# Altium schematic symbol library V_D.SchLib: 68 symbols
Pins are listed as number, name and electrical type; pins without a type are passive.

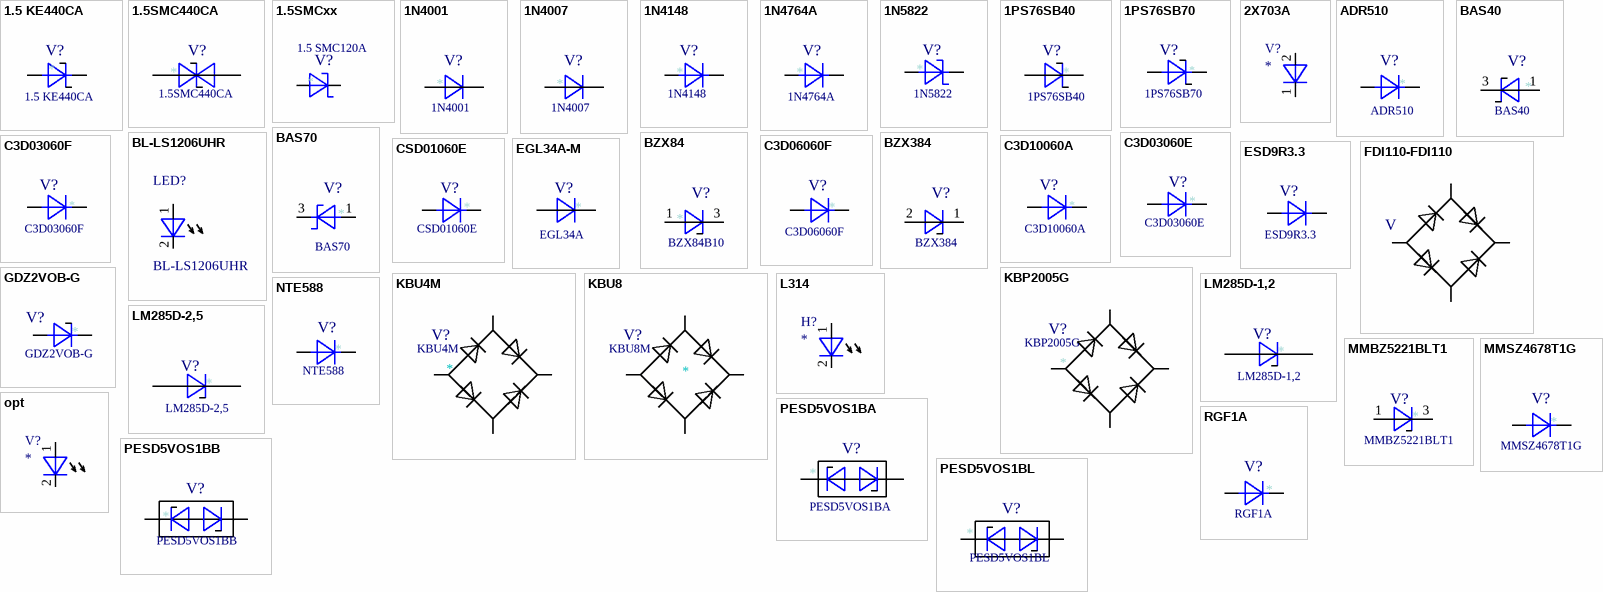
[diagram p0: symbols 1.5 KE440CA to RGF1A]

## 1.5 KE440CA
designator V?
TitAD: Стабилитрон; Supplier 1: Mouser; Supplier Part Number 1: 576-1.5KE440CA
footprint DO-27_(DO-201AD,DO-201AE)
pins: 1 A1, 2 A2

## 1.5SMC440CA
designator V?
TitAD: Стабилитрон; Supplier 1: Digi-Key; Supplier Part Number 1: 1.5SMC440A-E3/57TGICT-ND
footprint SMC_1
pins: 1 K, 2 A

## 1.5SMCxx
designator V?, comment 1.5 SMC120A
TitAD: Стабилитрон; SType: 1,5SMC@120A; Supplier 1: Digi-Key; Supplier Part Number 1: F4116TR-ND
footprint SMC
pins: 1 K, 2 A

## 1N4001
designator V?
TitAD: Диод; Supplier 1: Mouser; Supplier Part Number 1: 625-1N4007E-E3/73
footprint DO-41
pins: 1 K, 2 A

## 1N4007
designator V?
TitAD: Диод; Supplier 1: Mouser; Supplier Part Number 1: 625-1N4007E-E3/73
footprint DO-41
pins: 1 K, 2 A

## 1N4148
designator V?
TitAD: Диод; Supplier 1: Farnell; Supplier Part Number 1: 1081177
footprint SOD-27
pins: 1 K, 2 A

## 1N4764A
designator V?
TitAD: Диод; Supplier 1: Farnell; Supplier Part Number 1: 1577965
footprint DO-41
pins: 1 K, 2 A

## 1N5822
designator V?
TitAD: Диод; Supplier 1: Newark; Supplier Part Number 1: 42K2952
footprint DO-27_(DO-201AD,DO-201AE)
pins: 1 K, 2 A

## 1PS76SB40
designator V?
TitAD: Стабилитрон; SType: SMAJ@22A
footprint SOD323 (Molded Diode, 2-Leads, Body 1,70x1,25mm, IPC Medium Density)
pins: 1 K, 2 A

## 1PS76SB70
designator V?
TitAD: Диод
footprint SOD323 (Molded Diode, 2-Leads, Body 1,70x1,25mm, IPC Medium Density)
pins: 1 K, 2 A

## 2X703A
designator V?
footprint 2X703A
pins: 1 A, 2 C, 3 hidden

## ADR510
designator V?
TitAD: Диод
footprint SOT-23
pins: 1 K, 2 A, 3 hidden

## BAS40
designator V?
TitAD: Диод; Supplier 1: Farnell; Supplier Part Number 1: 1902408
footprint SOT-23
pins: 1 A, 2 NC hidden, 3 C

## BAS70
designator V?
TitAD: Диод; Supplier 1: Mouser; Supplier Part Number 1: 621-BAS70W-05-F
footprint SOT-23
pins: 1 A, 2 NC hidden, 3 C

## BL-LS1206UHR
designator LED?
pins: 1 A, 2 C

## BZX84
designator V?, comment BZX84B10
TitAD: Стабилитрон; SType: BZX84@B10; Supplier 1: Mouser
footprint SOT-23
pins: 1 A, 2 NC hidden, 3 C

## BZX384
designator V?
TitAD: Стабилитрон; SType: @B10; Supplier 1: Mouser
footprint SOD323 (Molded Diode, 2-Leads, Body 1,70x1,25mm, IPC Medium Density)
pins: 1 A, 2 C

## C3D03060E
designator V?
TitAD: Диод; Supplier 1: Mouser; Supplier Part Number 1: 941-CSD01060E
footprint TO-252-2
pins: 1 K, 2 A, 3 K hidden

## C3D03060F
designator V?
TitAD: Диод; Supplier 1: Mouser; Supplier Part Number 1: 941-C3D03060F
footprint TO-220-F2
pins: 1 K, 2 A

## C3D06060F
designator V?
TitAD: Диод; Supplier 1: Mouser; Supplier Part Number 1: 941-C3D03060F
footprint TO-220-F2
pins: 1 K, 2 A

## C3D10060A
designator V?
TitAD: Диод; Supplier 1: Mouser; Supplier Part Number 1: 941-C3D03060F
footprint TO-220-F2
pins: 1 K, 2 A

## CSD01060E
designator V?
TitAD: Диод; Value: CSD01060E; Supplier 1: Mouser; Supplier Part Number 1: 941-CSD01060E
footprint TO-252-2
pins: 1 K, 2 A, 3 K hidden

## EGL34A-M
designator V?, comment EGL34A
TitAD: Диод; SType: EGL34@A; Supplier 1: Newark; Supplier Part Number 1: 08N8934; Supplier 2: Digi-Key; Supplier Part Number 2: EGL34D-E3/98GICT-ND
footprint DO-213AA(MINIMELF)
pins: 1 K, 2 A

## ESD9R3.3
designator V?
TitAD: Диод
footprint SOD 923
pins: 1 K, 2 A

## FDI110-FDI110
designator V, comment FDI100  (value not drawn)
TitAD: Диодный мост; Value: FDI100
footprint FDI110
pins: 1 -, 2 +, 3 ~, 4 ~

## GDZ2VOB-G
designator V?
SType: @2VOB-G; TitAD: Стабилитрон
footprint SOD323 (Molded Diode, 2-Leads, Body 1,70x1,25mm, IPC Medium Density)
pins: 1 K, 2 A

## KBP2005G
designator V?
TitAD: Диодный мост; Supplier 1: Digi-Key; Supplier Part Number 1: KBP2005GDI-ND
footprint KBP
pins: 1 -, 2 ~, 3 ~, 4 +

## KBU4M
designator V?
TitAD: Диодный мост; SType: KBU4@M; Supplier 1: Mouser; Supplier Part Number 1: 625-KBU4A-E4
footprint KBU
footprint KBU_радиатор
pins: 1 -, 2 ~, 3 ~, 4 +
2 alternate drawings of the same symbol

## KBU8
designator V?, comment KBU8M
TitAD: Диодный мост; SType: KBU8@M
footprint KBU
pins: 1 -, 2 ~, 3 ~, 4 +
2 alternate drawings of the same symbol

## L314
designator H?
TitAD: Светодиод; SType: HD
footprint Светодиод
pins: 1 A, 2 C

## LM285D-1,2
designator V?
TitAD: Стабилитрон; Supplier 1: Farnell; Supplier Part Number 1: 8389187
footprint SO8
pins: 1 C hidden, 2 C hidden, 3 C hidden, 4 A, 5 C hidden, 6 C hidden, 7 C hidden, 8 C

## LM285D-2,5
designator V?
TitAD: Стабилитрон; Supplier 1: Farnell; Supplier Part Number 1: 8389187
footprint SO8
pins: 1 C hidden, 2 C hidden, 3 C hidden, 4 A, 5 C hidden, 6 C hidden, 7 C hidden, 8 C

## MMBZ5221BLT1
designator V?
TitAD: Стабилитрон; Supplier 1: Digi-Key; Supplier Part Number 1: MMBZ5221BLT1OSTR-ND
footprint SOT-23
pins: 1 A, 2 NC hidden, 3 C

## MMSZ4678T1G
designator V?
TitAD: Диод
footprint SOD-123
pins: 1 K, 2 A

## NTE588
designator V?
TitAD: Диод; Supplier 1: Newark; Supplier Part Number 1: 29C4743
footprint DO-127
pins: 1 K, 2 A

## opt
designator V?
pins: 1 A, 2 C

## PESD5VOS1BA
designator V?
TitAD: Стабилитрон
footprint SOD323 (Molded Diode, 2-Leads, Body 1,70x1,25mm, IPC Medium Density)
pins: 1 K1, 2 K2

## PESD5VOS1BB
designator V?
TitAD: Стабилитрон
footprint SOD-523
pins: 1 K1, 2 K2

## PESD5VOS1BL
designator V?
TitAD: Стабилитрон
footprint SOD-882
pins: 1 K1, 2 K2

## RGF1A
designator V?
TitAD: Диод; Supplier 1: Mouser; Supplier Part Number 1: 625-RGF1A/17A
footprint DO-214BA
pins: 1 K, 2 A

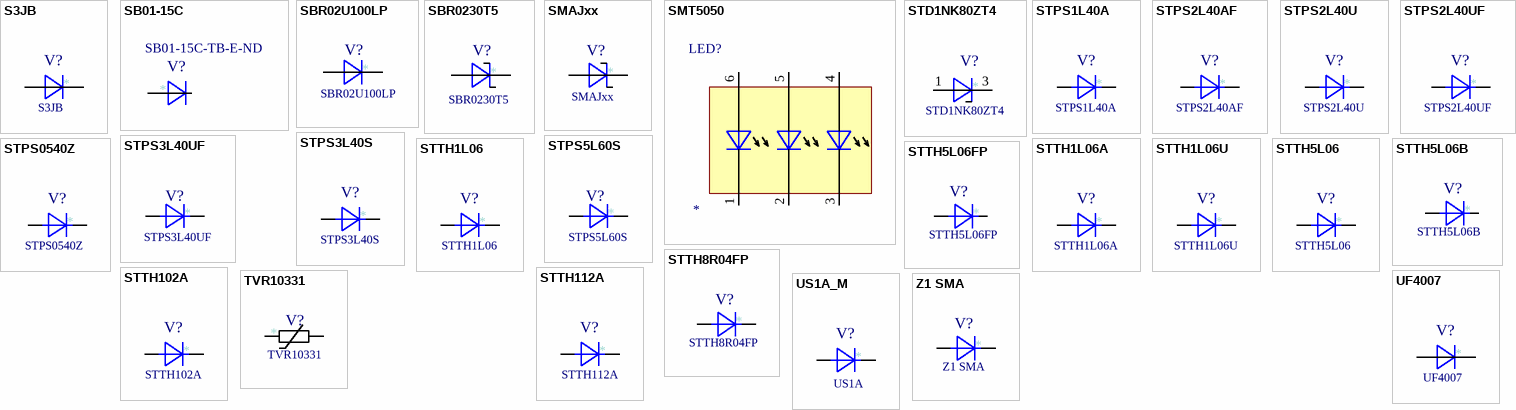
[diagram p1: symbols S3JB to Z1 SMA]

## S3JB
designator V?
TitAD: Диод; Supplier 1: Mouser; Supplier Part Number 1: 621-S3JB
footprint SMB
pins: 1 K, 2 A

## SB01-15C
designator V?  Supplier Part Number 1: SB01-15C-TB-E-ND
TitAD: Диод; Supplier 1: Digi-Key
footprint SOT-23
pins: 1 A, 2 A hidden, 3 K hidden

## SBR02U100LP
designator V?
TitAD: Диод; Supplier 1: Farnell; Supplier Part Number 1: 1713926
footprint DFN1006-2
pins: 1 K, 2 A

## SBR0230T5
designator V?
TitAD: Стабилитрон; Supplier 1: Digi-Key; Supplier Part Number 1: SBR0230T5-7TR-ND
footprint SOD-523
pins: 1 K, 2 A

## SMAJxx
designator V?
TitAD: Стабилитрон; SType: SMAJ@22A; Supplier 1: Digi-Key; Supplier Part Number 1: SMAJ90A-FDITR-ND
footprint SMA_(DO-214AC)
pins: 1 K, 2 A

## SMT5050
designator LED?
pins: 1 C, 2 C, 3 C, 4 A, 5 A, 6 A

## STD1NK80ZT4
designator V?
TitAD: Стабилитрон; SType: BZZ84@B10; Supplier 1: Mouser
footprint SOT-23
pins: 1 A, 2 NC hidden, 3 C

## STPS1L40A
designator V?
TitAD: Диод; Supplier 1: Digi-Key; Supplier Part Number 1: 497-3753-2-ND
footprint SMA_(DO-214AC)
pins: 1 K, 2 A

## STPS2L40AF
designator V?
TitAD: Диод; Supplier 1: Farnell; Supplier Part Number 1: 1373662RL
footprint SMA-flat
pins: 1 K, 2 A

## STPS2L40U
designator V?
TitAD: Диод; Supplier 1: Farnell; Supplier Part Number 1: 1373662RL
footprint SMB
pins: 1 K, 2 A

## STPS2L40UF
designator V?
TitAD: Диод; Supplier 1: Farnell; Supplier Part Number 1: 1373662RL
footprint SMB-flat
pins: 1 K, 2 A

## STPS3L40S
designator V?
TitAD: Диод; Supplier 1: Mouser; Supplier Part Number 1: 511-STPS3L40S
footprint SMC
pins: 1 K, 2 A

## STPS3L40UF
designator V?
TitAD: Диод; Supplier 1: Newark; Supplier Part Number 1: 37M6783
footprint SMB-flat
pins: 1 K, 2 A

## STPS5L60S
designator V?
TitAD: Диод; Supplier 1: Mouser; Supplier Part Number 1: 511-STPS5L60S
footprint SMC
pins: 1 K, 2 A

## STPS0540Z
designator V?
TitAD: Диод; Supplier 1: Digi-Key; Supplier Part Number 1: 497-7538-2-ND
footprint SOD-123
pins: 1 K, 2 A

## STTH1L06
designator V?
TitAD: Диод; Supplier 1: Digi-Key; Supplier Part Number 1: 497-12800-3-ND
footprint DO-41
pins: 1 K, 2 A

## STTH1L06A
designator V?
TitAD: Диод; Supplier 1: Mouser; Supplier Part Number 1: 511-STTH1L06A
footprint SMA_(DO-214AC)
pins: 1 K, 2 A

## STTH1L06U
designator V?
TitAD: Диод; Supplier 1: Farnell; Supplier Part Number 1: 9907939
footprint SMB
pins: 1 K, 2 A

## STTH5L06
designator V?
TitAD: Диод; Supplier 1: Digi-Key; Supplier Part Number 1: 497-5231-1-ND
footprint DO-27_(DO-201AD,DO-201AE)
pins: 1 K, 2 A

## STTH5L06B
designator V?
TitAD: Диод; Supplier 1: Mouser; Supplier Part Number 1: 511-STTH5L06B-TR
footprint TO-252-2
pins: 1 NC hidden, 2 A, 3 K

## STTH5L06FP
designator V?
TitAD: Диод; Supplier 1: Digi-Key; Supplier Part Number 1: 497-3747-5-ND
footprint TO-220_A(TO-220FP)
pins: 1 hidden, 2 A, 3 K

## STTH8R04FP
designator V?
TitAD: Диод; Supplier 1: Mouser; Supplier Part Number 1: 511-STTH8R04FP
footprint TO-220-F2
pins: 1 K, 2 A

## STTH102A
designator V?
TitAD: Диод; Supplier 1: Digi-Key; Supplier Part Number 1: 497-2500-1-ND
footprint SMA_(DO-214AC)
pins: 1 K, 2 A

## STTH112A
designator V?
TitAD: Диод; Supplier 1: Digi-Key; Supplier Part Number 1: 497-3753-2-ND
footprint SMA_(DO-214AC)
pins: 1 K, 2 A

## TVR10331
designator V?
TitAD: Варистор
footprint TVR10331
footprint TVR10331_1
footprint TVR10331_2
footprint TVR10331_3
pins: 1, 2

## UF4007
designator V?
TitAD: Диод; Supplier 1: Digi-Key; Supplier Part Number 1: UF4007-TPMSTR-ND
footprint DO-41
pins: 1 K, 2 A

## US1A_M
designator V?, comment US1A
TitAD: Диод; SType: US1@A
footprint SMA_(DO-214AC)
pins: 1 K, 2 A

## Z1 SMA
designator V?
TitAD: Диод; SType: *
footprint Z1 SMA
pins: 1 K, 2 A